# Altium schematic symbol library NCP1117IDT50T4G.SchLib: 1 symbol
Pins are listed as number, name and electrical type; pins without a type are passive.

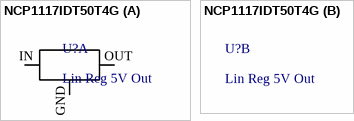
[diagram p0: symbol NCP1117IDT50T4G]

## NCP1117IDT50T4G
designator U?, comment Lin Reg 5V Out
Linear Voltage Regulator IC Positive Fixed 1 Output 1A DPAK
footprint NCP1117IDT50T4G
part A pins: GND, IN, OUT